# EAGLE library part AE5554H-1346 (library saw-filters-narrowband)
ЦПАР.433561.54-09 Параметр Ед. изм. Нижняя частота Тип. значение Верхняя частота Центральная частота МГц - 1346 - Минимальное вносимое затухание дБ - Не более 4 - Частота среза по уровню -2 дБ МГц Не более 1321.02 - Не менее 1370.98 Частота среза по уровню -30 дБ МГц Не менее 1292.98 - Не более 1442.65 Неравномерность АЧХ дБ - Не более 2 - Групповое время задержки нс - - - Гарантированное затухание дБ - 30 - Температурный диапазон °C -55 22 +85 Материал подложки - - Ниобат лития 64 -
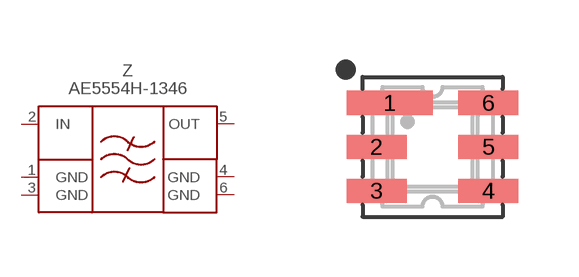
[diagram p37: symbol with the pads of DCC6; footprint DCC6]

Designator prefix Z

## AE5554H-1346  [DCC6]
1  GND  pwr
2  IN  in
3  GND  pwr
4  GND  pwr
5  OUT  out
6  GND  pwr

## Footprint DCC6 (pad centres in mm)
smd 2.15 x 0.6: 1 -1.075,1.1
smd 1.5 x 0.6: 2 -1.4,0; 3 -1.4,-1.1; 4 1.4,-1.1; 5 1.4,0; 6 1.4,1.1